# Altium footprint library SOD-128.PcbLib: 1 footprints
Each footprint in its own frame and in the unit in brackets; x right, y up, seen from the top. Pads: shape width x height; smd on the part's side, far side on the other; paste and mask are expansions set on the pad; w line width, h text height; cw(c..) or ccw(c..) is an arc to the next point about the centre after c.
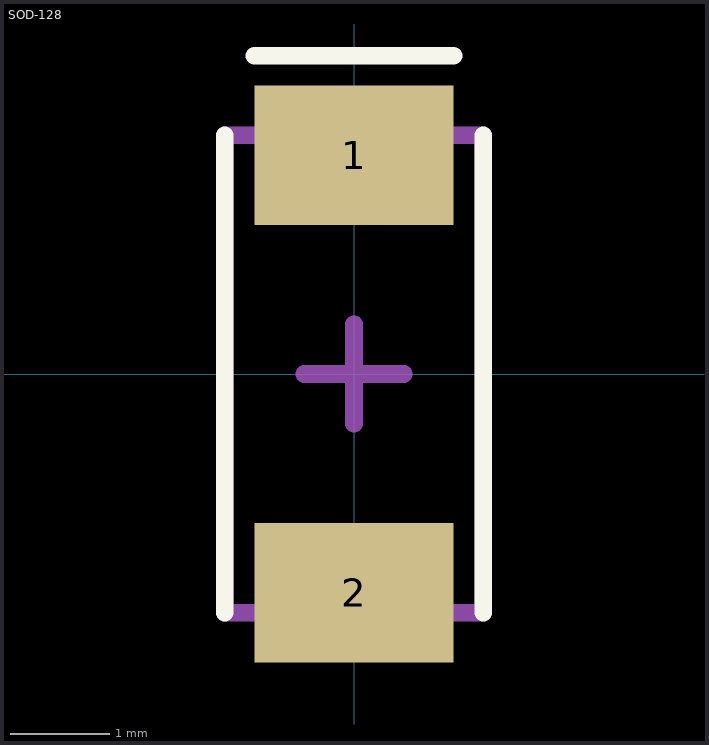
[diagram p0: the footprint, top view; thin cyan lines are the x and y axes]

## SOD-128 [mm]
pads (2):
  rect 2x1.4 smd mask+0.051: 1(0,2.2) 2(0,-2.2)
Top Overlay:
  lines w0.178: -1.3,-2.4 -1.3,2.4 ; -1,3.2 1,3.2 ; 1.3,-2.4 1.3,2.4
Mechanical 13:
  lines w0.178: -1.3,-2.4 1.3,-2.4 1.3,2.4 -1.3,2.4 -1.3,-2.4
Mechanical 15:
  lines w0.178: -0.5,0 0,0 ; 0,-0.5 0,0 ; 0,0.5 0,0 ; 0.5,0 0,0
3D body "DIO_RB050LAM_ROM.step": height 1.05, standoff 0, extent -1.245,-2.426 1.245,2.426